# EAGLE library part ZIF40_0.5MM_PITCH (library Connectors)
40 Pin 0.5mm ptch FPC Connector http://www.buydisplay.com/default/40-pin-0-5mm-pitch-top-contact-zif-connector-fpc-connector
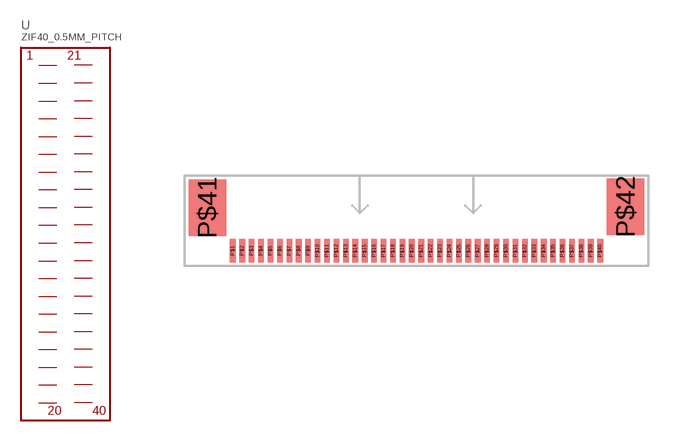
[diagram p4: symbol with the pads of ZIF40; footprint ZIF40]

Designator prefix -

## ZIF40_0.5MM_PITCH  [ZIF40]
P$1  P$1
P$2  P$2
P$3  P$3
P$4  P$4
P$5  P$5
P$6  P$6
P$7  P$7
P$8  P$8
P$9  P$9
P$10  P$10
P$11  P$11
P$12  P$12
P$13  P$13
P$14  P$14
P$15  P$15
P$16  P$16
P$17  P$17
P$18  P$18
P$19  P$19
P$20  P$20
P$21  P$21
P$22  P$22
P$23  P$23
P$24  P$24
P$25  P$25
P$26  P$26
P$27  P$27
P$28  P$28
P$29  P$29
P$30  P$30
P$31  P$31
P$32  P$32
P$33  P$33
P$34  P$34
P$35  P$35
P$36  P$36
P$37  P$37
P$38  P$38
P$39  P$39
P$40  P$40

## Footprint ZIF40 (pad centres in mm)
0.5mm Pitch SMT FPC/ZIF Connector
smd 0.3 x 1.25: P$1 -9.75,0; P$2 -9.25,0; P$3 -8.75,0; P$4 -8.25,0; P$5 -7.75,0; P$6 -7.25,0; P$7 -6.75,0; P$8 -6.25,0; P$9 -5.75,0; P$10 -5.25,0; P$11 -4.75,0; P$12 -4.25,0; P$13 -3.75,0; P$14 -3.25,0; P$15 -2.75,0; P$16 -2.25,0; P$17 -1.75,0; P$18 -1.25,0; P$19 -0.75,0; P$20 -0.25,0; P$21 0.25,0; P$22 0.75,0; P$23 1.25,0; P$24 1.75,0; P$25 2.25,0; P$26 2.75,0; P$27 3.25,0; P$28 3.75,0; P$29 4.25,0; P$30 4.75,0; P$31 5.25,0; P$32 5.75,0; P$33 6.25,0; P$34 6.75,0; P$35 7.25,0; P$36 7.75,0; P$37 8.25,0; P$38 8.75,0; P$39 9.25,0; P$40 9.75,0
smd 2 x 3: P$41 -11.1,2.3; P$42 11.1,2.35